# Altium footprint library l293d.PcbLib: 2 footprints
Each footprint in its own frame and in the unit in brackets; x right, y up, seen from the top. Pads: shape width x height; smd on the part's side, far side on the other; paste and mask are expansions set on the pad; w line width, h text height; cw(c..) or ccw(c..) is an arc to the next point about the centre after c.
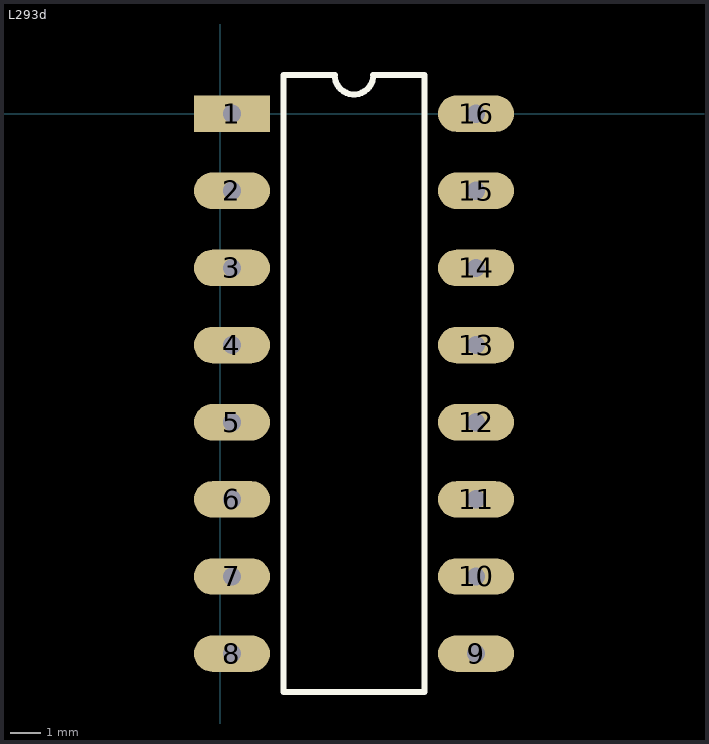
[diagram p0: the footprints below, top view; thin cyan lines are the x and y axes]

## L293d [mm]
pads (16):
  rect 2.5x1.2 hole 0.6: 1(0.381,0)
  oval 2.5x1.2 hole 0.6: 2(0.381,-2.54) 3(0.381,-5.08) 4(0.381,-7.62) 5(0.381,-10.16) 6(0.381,-12.7) 7(0.381,-15.24) 8(0.381,-17.78) 9(8.419,-17.78) 10(8.419,-15.24) 11(8.419,-12.7) 12(8.419,-10.16) 13(8.419,-7.62) 14(8.419,-5.08) 15(8.419,-2.54) 16(8.419,0)
Top Overlay:
  lines w0.2: 2.085,-19.05 2.085,1.27 3.765,1.27 ccw(c4.4,1.27) 5.035,1.27 6.715,1.27 6.715,-19.05 2.085,-19.05
3D body "PowerDIP-16_STM.step": height 5.24, standoff -2.54, extent 0.381,-18.847 8.509,1.143

## PCBComponent_1 [mm]